# Altium integrated library FT231XQ-R.IntLib: 1 symbol
Pins are listed as number, name and electrical type; pins without a type are passive.

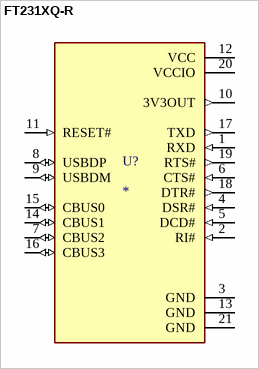
[diagram p0: symbol FT231XQ-R]

## FT231XQ-R
designator U?
USB2.0 Full Speed IC offers a compact bridge to full handshake UART Interface; MP: FT231XQ-R; Package: None; Price: None; Availability: Unavailable; Value: *
footprint QFN50P400X400X80-21N
pins: 1 RXD (in), 2 RI# (in), 3 GND (power), 4 DSR# (in), 5 DCD# (in), 6 CTS# (in), 7 CBUS2 (io), 8 USBDP (io), 9 USBDM (io), 10 3V3OUT (out), 11 RESET# (in), 12 VCC (power), 13 GND (power), 14 CBUS1 (io), 15 CBUS0 (io), 16 CBUS3 (io), 17 TXD (out), 18 DTR# (out), 19 RTS# (out), 20 VCCIO (power), 21 GND (power)